# Altium footprint library SMAF_S4.PcbLib: 1 footprints
Each footprint in its own frame and in the unit in brackets; x right, y up, seen from the top. Pads: shape width x height; smd on the part's side, far side on the other; paste and mask are expansions set on the pad; w line width, h text height; cw(c..) or ccw(c..) is an arc to the next point about the centre after c.
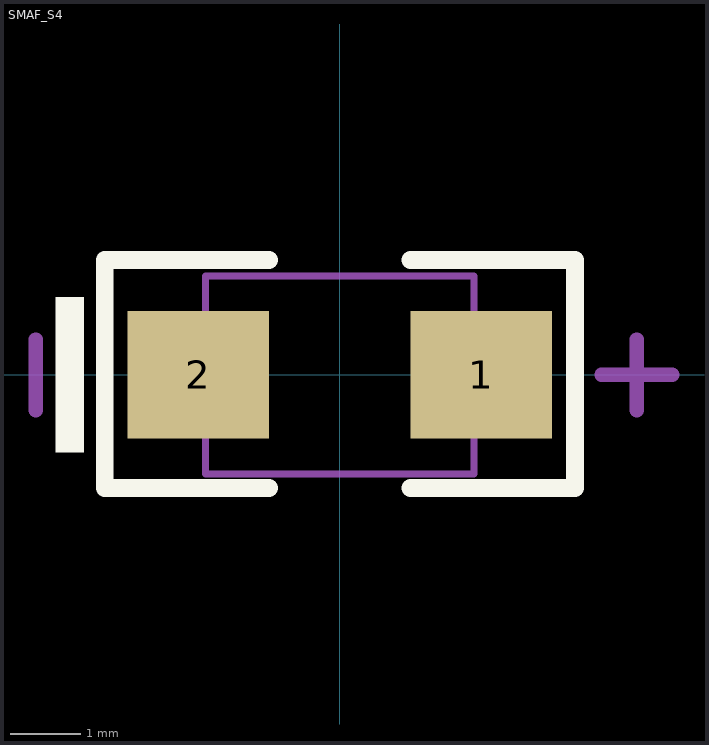
[diagram p0: the footprint, top view; thin cyan lines are the x and y axes]

## SMAF_S4 [mm]
pads (2):
  rect 2x1.8 smd: 1(2,0) 2(-2,0)
Top Overlay:
  rectangle: -4.021,-1.1 -3.621,1.1
  lines w0.254: -1,-1.6 -3.325,-1.6 -3.325,1.625 -1,1.625 ; 1,-1.6 3.325,-1.6 3.325,1.625 1,1.625
Mechanical 13:
  lines w0.1: -1.9,-1.4 1.9,-1.4 1.9,1.4 -1.9,1.4 -1.9,-1.4
Mechanical 15:
  lines w0.203: -4.3,-0.5 -4.3,0.5 ; 3.7,0 4.7,0 ; 4.2,-0.5 4.2,0.5